# EAGLE library part CONN-J-TAG (library parts_library)
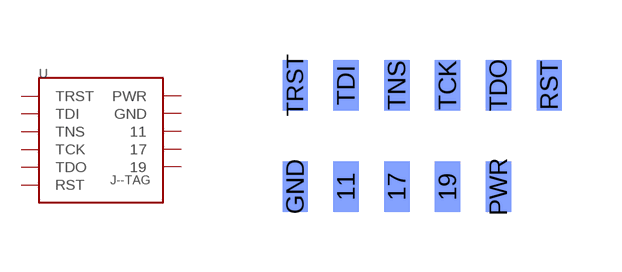
[diagram p1: symbol with the pads of J-TAG_SMD; footprint J-TAG_SMD]

Designator prefix -

## CONN-J-TAG  [J-TAG_SMD]
11  11
17  17
19  19
GND  GND  sup
PWR  PWR  pwr
RST  RST
TCK  TCK
TDI  TDI
TDO  TDO
TNS  TNS
TRST  TRST

## Footprint J-TAG_SMD (pad centres in mm)
smd 0.635 x 1.27 bottom: 11 -2.032,-1.27; 17 -0.762,-1.27; 19 0.508,-1.27; GND -3.302,-1.27; PWR 1.778,-1.27; RST 3.048,1.27; TCK 0.508,1.27; TDI -2.032,1.27; TDO 1.778,1.27; TNS -0.762,1.27; TRST -3.302,1.27